# Altium footprint library oscylator_32768Hz.PcbLib: 1 footprints
Each footprint in its own frame and in the unit in brackets; x right, y up, seen from the top. Pads: shape width x height; smd on the part's side, far side on the other; paste and mask are expansions set on the pad; w line width, h text height; cw(c..) or ccw(c..) is an arc to the next point about the centre after c.
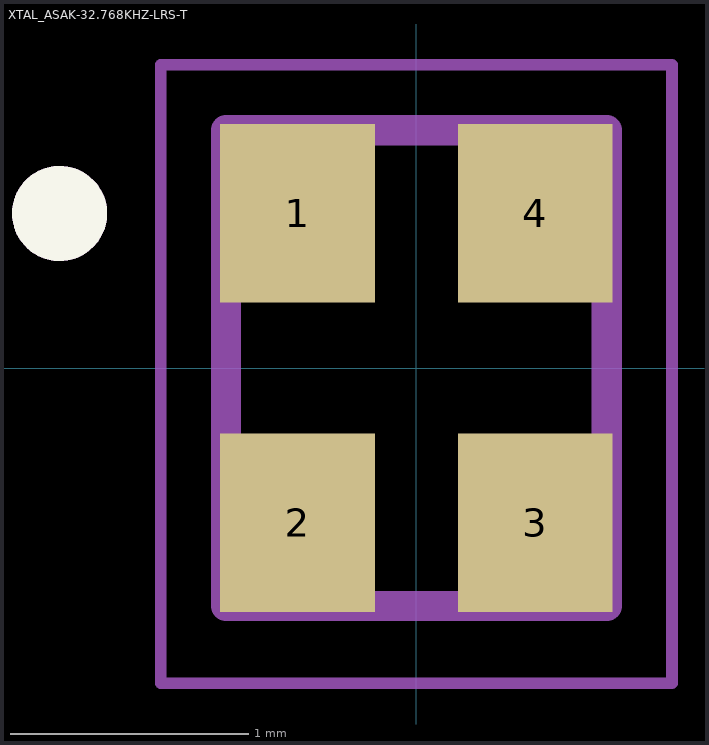
[diagram p0: the footprint, top view; thin cyan lines are the x and y axes]

## XTAL_ASAK-32.768KHZ-LRS-T [mm]
height 0.8
pads (4):
  rect 0.65x0.75 smd: 1(-0.5,0.65) 2(-0.5,-0.65) 3(0.5,-0.65) 4(0.5,0.65)
Top Overlay:
  circle w0.2: c-1.5,0.65 r0.1
Mechanical 13:
  circle w0.2: c-1.5,0.65 r0.1
  lines w0.127: -0.8,-1 0.8,-1 0.8,1 -0.8,1 -0.8,-1
Mechanical 15:
  lines w0.05: -1.075,-1.325 1.075,-1.325 1.075,1.275 -1.075,1.275 -1.075,-1.325